# EAGLE library part PICAXE-14 (library picaxe-4)
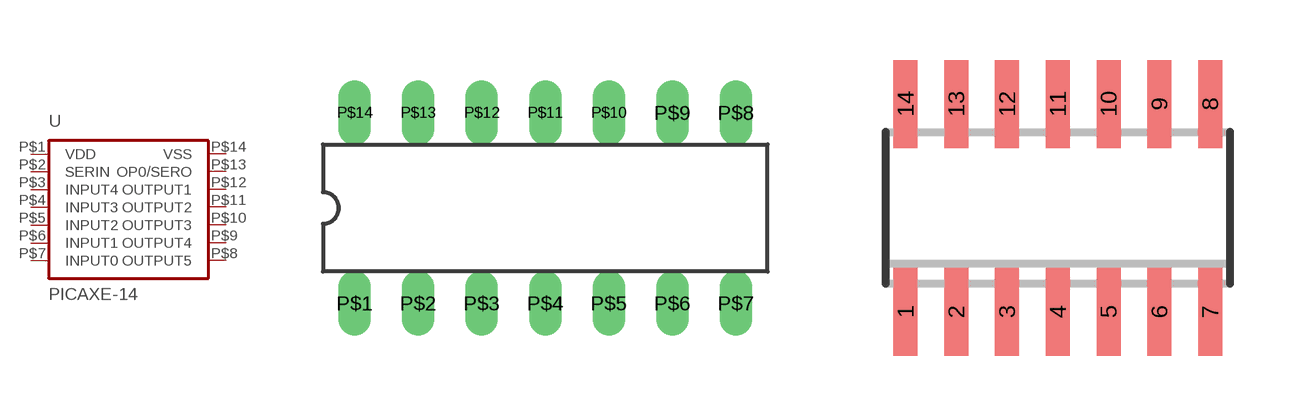
[diagram p3: symbol with the pads of DIL14M; footprints DIL14M, SO14]

Designator prefix -

## PICAXE-14  [DIL14M]
P$1  VDD  pwr
P$2  SERIN  in
P$3  INPUT4  in
P$4  INPUT3  in
P$5  INPUT2  in
P$6  INPUT1  in
P$7  INPUT0  in
P$8  OUTPUT5  out
P$9  OUTPUT4  out
P$10  OUTPUT3  out
P$11  OUTPUT2  out
P$12  OUTPUT1  out
P$13  OP0/SERO  out
P$14  VSS  pwr

## PICAXE-14AXE017M2SM  [SO14]
1  VDD  pwr
2  SERIN  in
3  INPUT4  in
4  INPUT3  in
5  INPUT2  in
6  INPUT1  in
7  INPUT0  in
8  OUTPUT5  out
9  OUTPUT4  out
10  OUTPUT3  out
11  OUTPUT2  out
12  OUTPUT1  out
13  OP0/SERO  out
14  VSS  pwr

## Footprint DIL14M (pad centres in mm)
drill 0.8 long: P$1 -7.62,-3.81; P$2 -5.08,-3.81; P$3 -2.54,-3.81; P$4 0,-3.81; P$5 2.54,-3.81; P$6 5.08,-3.81; P$7 7.62,-3.81; P$8 7.62,3.81; P$9 5.08,3.81; P$10 2.54,3.81; P$11 0,3.81; P$12 -2.54,3.81; P$13 -5.08,3.81; P$14 -7.62,3.81

## Footprint SO14 (pad centres in mm)
14-Lead Narrow-Body SOIC (SO-14) Source: http://www.analog.com/static/imported-files/data_sheets/SSM2166.pdf
smd 0.6 x 2.2: 1 -3.81,-2.6; 2 -2.54,-2.6; 3 -1.27,-2.6; 4 0,-2.6; 5 1.27,-2.6; 6 2.54,-2.6; 7 3.81,-2.6; 8 3.81,2.6; 9 2.54,2.6; 10 1.27,2.6; 11 0,2.6; 12 -1.27,2.6; 13 -2.54,2.6; 14 -3.81,2.6